# EAGLE library part LCD_240X320 (library displays)
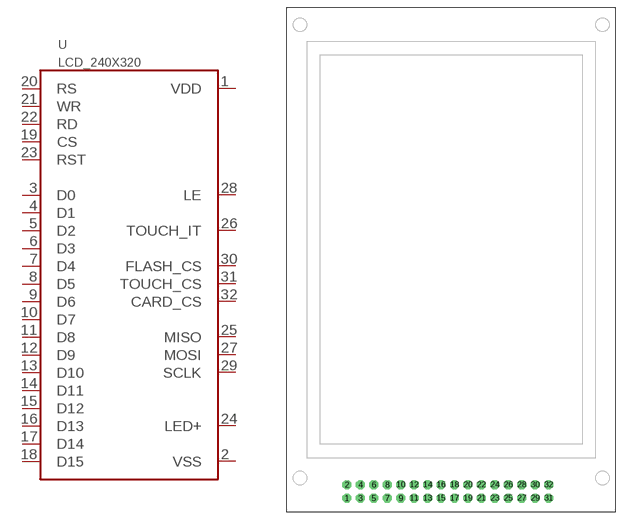
[diagram p3: symbol with the pads of LCD_240X320; footprint LCD_240X320]

Designator prefix -

## LCD_240X320  [LCD_240X320]
1  VDD
2  VSS
3  D0
4  D1
5  D2
6  D3
7  D4
8  D5
9  D6
10  D7
11  D8
12  D9
13  D10
14  D11
15  D12
16  D13
17  D14
18  D15
19  CS
20  RS
21  WR
22  RD
23  RST
24  LED+
25  MISO
26  TOUCH_IT
27  MOSI
28  LE
29  SCLK
30  FLASH_CS
31  TOUCH_CS
32  CARD_CS

## Footprint LCD_240X320 (pad centres in mm)
drill 1 pad 1.676 octagon: 1 11.43,2.54; 2 11.43,5.08; 3 13.97,2.54; 4 13.97,5.08; 5 16.51,2.54; 6 16.51,5.08; 7 19.05,2.54; 8 19.05,5.08; 9 21.59,2.54; 10 21.59,5.08; 11 24.13,2.54; 12 24.13,5.08; 13 26.67,2.54; 14 26.67,5.08; 15 29.21,2.54; 16 29.21,5.08; 17 31.75,2.54; 18 31.75,5.08; 19 34.29,2.54; 20 34.29,5.08; 21 36.83,2.54; 22 36.83,5.08; 23 39.37,2.54; 24 39.37,5.08; 25 41.91,2.54; 26 41.91,5.08; 27 44.45,2.54; 28 44.45,5.08; 29 46.99,2.54; 30 46.99,5.08; 31 49.53,2.54; 32 49.53,5.08